# EAGLE library part FM25L (library JLB6_Processor)
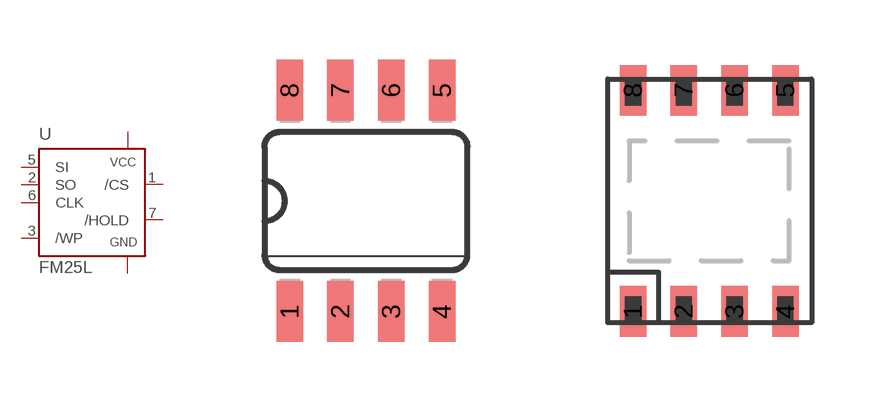
[diagram p13: symbol with the pads of SO08; footprints SO08, SAP8]

Designator prefix U

## FM25LSO  [SO08]
1  /CS  in
2  SO
3  /WP  pas
4  GND  pwr
5  SI  in
6  CLK  in
7  /HOLD  in
8  VCC  pwr

## FM25LSAP  [SAP8]
Pads as for SO08

## Footprint SO08 (pad centres in mm)
Small Outline Package
smd 0.66 x 1.524: 1 -1.905,-2.769; 2 -0.635,-2.769; 3 0.635,-2.769; 4 1.905,-2.769; 5 1.905,2.769; 6 0.635,2.769; 7 -0.635,2.769; 8 -1.905,2.769

## Footprint SAP8 (pad centres in mm)
smd 0.66 x 1.27: 1 -1.905,-2.769; 2 -0.635,-2.769; 3 0.635,-2.769; 4 1.905,-2.769; 5 1.905,2.769; 6 0.635,2.769; 7 -0.635,2.769; 8 -1.905,2.769